# EAGLE library part SOC40X2 (library omcSocket)
SOC40X2 - two columns 40-pin socket/fooprint 40 pins 2 columns 20 pins per column Distributor Reichelt: - Conrad: - Digi-Key: -
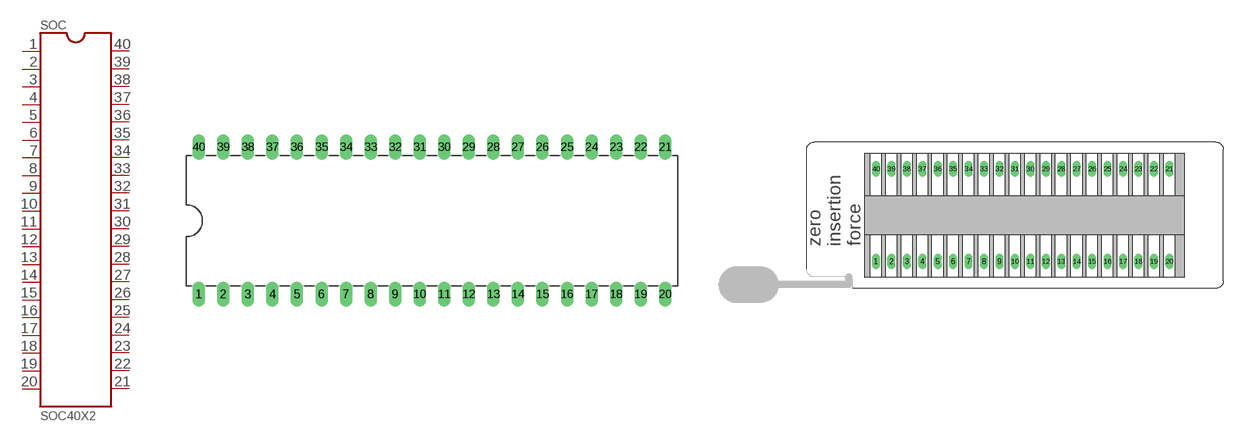
[diagram p3: symbol with the pads of DIL40; footprints DIL40, DIL40-ZIF]

Designator prefix SOC

## SOC40X2-DIL  [DIL40]
1  1
2  2
3  3
4  4
5  5
6  6
7  7
8  8
9  9
10  10
11  11
12  12
13  13
14  14
15  15
16  16
17  17
18  18
19  19
20  20
21  21
22  22
23  23
24  24
25  25
26  26
27  27
28  28
29  29
30  30
31  31
32  32
33  33
34  34
35  35
36  36
37  37
38  38
39  39
40  40

## SOC40X2 (DIST#POLLIN#: 400 008; VALUE: ZIF-40; VENDOR#: Connfly#DS1044-40FB)  [DIL40-ZIF]
Pads as for DIL40

## Footprint DIL40 (pad centres in mm)
DIL40/DIP40 THT Dual-in-line package 41.78mm×15.24mm Mechanical <http://www.holtek.com.tw/pdf/package/dip40-600.pdf> Wikipedia <https://en.wikipedia.org/wiki/Dual_in-line_package>
drill 0.8 long: 1 -22.86,-7.62; 2 -20.32,-7.62; 3 -17.78,-7.62; 4 -15.24,-7.62; 5 -12.7,-7.62; 6 -10.16,-7.62; 7 -7.62,-7.62; 8 -5.08,-7.62; 9 -2.54,-7.62; 10 0,-7.62; 11 2.54,-7.62; 12 5.08,-7.62; 13 7.62,-7.62; 14 10.16,-7.62; 15 12.7,-7.62; 16 15.24,-7.62; 17 17.78,-7.62; 18 20.32,-7.62; 19 22.86,-7.62; 20 25.4,-7.62; 21 25.4,7.62; 22 22.86,7.62; 23 20.32,7.62; 24 17.78,7.62; 25 15.24,7.62; 26 12.7,7.62; 27 10.16,7.62; 28 7.62,7.62; 29 5.08,7.62; 30 2.54,7.62; 31 0,7.62; 32 -2.54,7.62; 33 -5.08,7.62; 34 -7.62,7.62; 35 -10.16,7.62; 36 -12.7,7.62; 37 -15.24,7.62; 38 -17.78,7.62; 39 -20.32,7.62; 40 -22.86,7.62

## Footprint DIL40-ZIF (pad centres in mm)
Zero-insertion-force DIL40 THT Dual-in-line package 41.78mm×22.9mm Mechanical <http://www.tme.eu/de/Document/1baeedc879d3e178def94f0e6f7f758f/DS1044.pdf> Wikipedia <https://en.wikipedia.org/wiki/Zero_insertion_force>
drill 0.8 long: 1 -22.86,-7.62; 2 -20.32,-7.62; 3 -17.78,-7.62; 4 -15.24,-7.62; 5 -12.7,-7.62; 6 -10.16,-7.62; 7 -7.62,-7.62; 8 -5.08,-7.62; 9 -2.54,-7.62; 10 0,-7.62; 11 2.54,-7.62; 12 5.08,-7.62; 13 7.62,-7.62; 14 10.16,-7.62; 15 12.7,-7.62; 16 15.24,-7.62; 17 17.78,-7.62; 18 20.32,-7.62; 19 22.86,-7.62; 20 25.4,-7.62; 21 25.4,7.62; 22 22.86,7.62; 23 20.32,7.62; 24 17.78,7.62; 25 15.24,7.62; 26 12.7,7.62; 27 10.16,7.62; 28 7.62,7.62; 29 5.08,7.62; 30 2.54,7.62; 31 0,7.62; 32 -2.54,7.62; 33 -5.08,7.62; 34 -7.62,7.62; 35 -10.16,7.62; 36 -12.7,7.62; 37 -15.24,7.62; 38 -17.78,7.62; 39 -20.32,7.62; 40 -22.86,7.62